# Altium footprint library Footprint Library.PcbLib: 11 footprints
Each footprint in its own frame and in the unit in brackets; x right, y up, seen from the top. Pads: shape width x height; smd on the part's side, far side on the other; paste and mask are expansions set on the pad; w line width, h text height; cw(c..) or ccw(c..) is an arc to the next point about the centre after c.
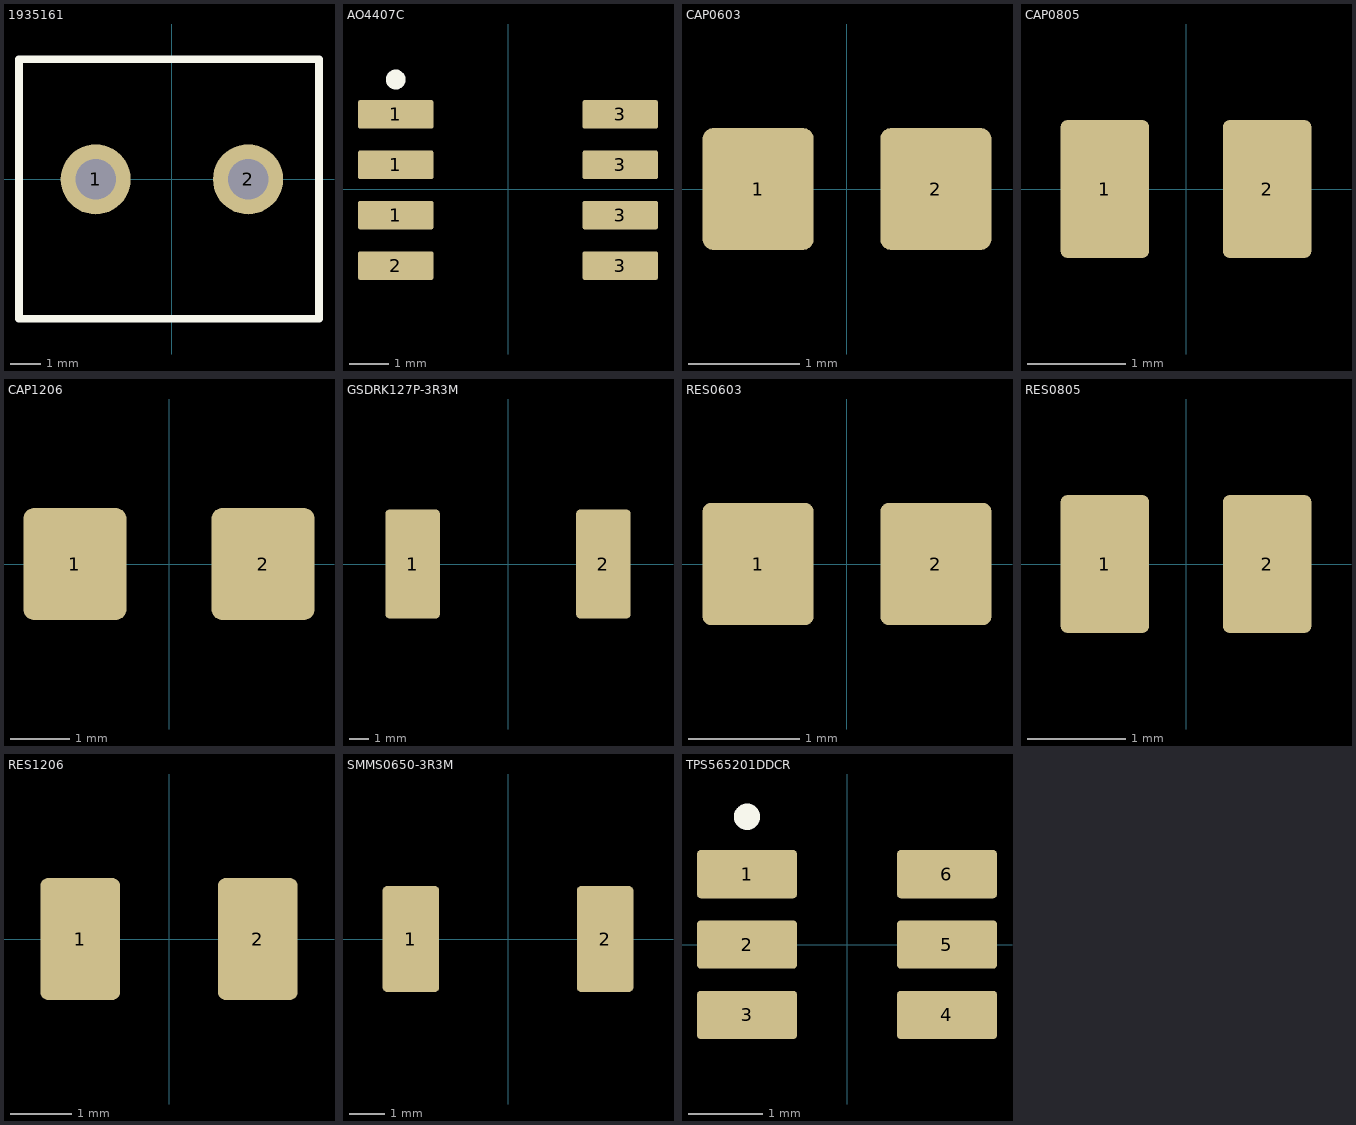
[diagram p0: the footprints below, top view; thin cyan lines are the x and y axes]

## 1935161 [mm] "TERM BLK 2POS SIDE ENTRY 5MM PCB"
pads (2):
  round 2.3 hole 1.325: 1(-2.5,0) 2(2.5,0)
Top Overlay:
  lines w0.254: -5.015,-4.572 4.826,-4.572 4.826,3.938 -5.015,3.938 -5.015,-4.572
3D body "1935161--3DModel-STEP-56544.STEP": height 11.41, standoff -3.49, extent -5.015,-5.062 5.385,3.938

## AO4407C [mm] "MOSFET P-CH 30V 14A SO-8"
pads (8):
  rrect15% 1.9x0.72 smd: 1(-2.827,-0.656) 1(-2.827,0.614) 1(-2.827,1.884) 2(-2.827,-1.926) 3(2.823,-1.926) 3(2.823,-0.656) 3(2.823,0.614) 3(2.823,1.884)
Top Overlay:
  circle w0.25: c-2.827,2.759 r0.125
3D body "User Library-SOIC-8-1.step": height 1.75, standoff 0, extent -3,-2.45 3,2.45

## CAP0603 [mm] "Ceramic Capacitor 0603"
height 0.55
pads (2):
  rrect20% 1x1.1 smd: 1(-0.8,0) 2(0.8,0)
Mechanical 13:
  lines w0.1: -0.875,-0.475 -0.875,0.475 ; 0.875,-0.475 0.875,0.475
3D body: height 0.55, standoff 0, extent 0.525,-0.475 0.875,0.475
3D body: height 0.55, standoff 0, extent -0.875,-0.475 -0.525,0.475
3D body "c0603c101j1gactu.stp": height 0.87, standoff 0, extent -0.875,-0.475 0.875,0.475

## CAP0805 [mm] "Ceramic Capacitor 0805"
pads (2):
  rrect15% 0.9x1.4 smd: 1(-0.825,0) 2(0.825,0)
3D body "CAP0805.stp": height 1.39, standoff -0.01, extent -1.1,-0.725 1.1,0.725

## CAP1206 [mm] "Ceramic Capacitor 1206"
height 0.55
pads (2):
  rrect20% 1.75x1.9 smd: 1(-1.6,0) 2(1.6,0)
3D body "1206.stp": height 0.88, standoff 0, extent -1.7,-0.9 1.7,0.9

## GSDRK127P-3R3M [mm] "IND 3.3UH 9.6A 10M OHM"
pads (2):
  rrect15% 2.8x5.6 smd: 1(-4.9,0) 2(4.9,0)
3D body: height 8, standoff 0, extent -6.25,-6.25 6.25,6.25

## RES0603 [mm] "SMT Resistor 0603"
height 0.6
pads (2):
  rrect15% 1x1.1 smd: 1(-0.8,0) 2(0.8,0)
3D body "0603.step": height 0.46, standoff 0.01, extent -0.8,-0.4 0.8,0.4

## RES0805 [mm] "SMT Resistor 0805"
height 0.5
pads (2):
  rrect15% 0.9x1.4 smd: 1(-0.825,0) 2(0.825,0)
3D body "0805 resistor.step": height 0.61, standoff 0.01, extent -1,-0.625 1,0.625

## RES1206 [mm] "SMT Resistor 1206"
height 0.75
pads (2):
  rrect20% 1.3x2 smd: 1(-1.45,0) 2(1.45,0)
3D body "1206 resistor.step": height 0.61, standoff 0.01, extent -1.6,-0.8 1.6,0.8

## SMMS0650-3R3M [mm] "IND 3.3UH 8.5A 22M OHM"
pads (2):
  rrect15% 1.6x3 smd: 1(-2.75,0) 2(2.75,0)
3D body: height 5, standoff 0, extent -3.55,-3.3 3.55,3.3

## TPS565201DDCR [mm] "IC REG BUCK ADJ 5A TSOT23-6"
height 1.1
pads (6):
  rrect15% 1.35x0.65 smd mask+0.102: 1(-1.35,0.95) 2(-1.35,0) 3(-1.35,-0.95) 4(1.35,-0.95) 5(1.35,0) 6(1.35,0.95)
Top Overlay:
  circle w0.254: c-1.35,1.725 r0.05
3D body "SOT-23-6.step": height 1.45, standoff 0, extent -1.4,-1.45 1.4,1.45